# Altium schematic symbol library kmilo17pet-LT_PMIC_LT.SchLib: 2252 symbols (part 61 of 124)
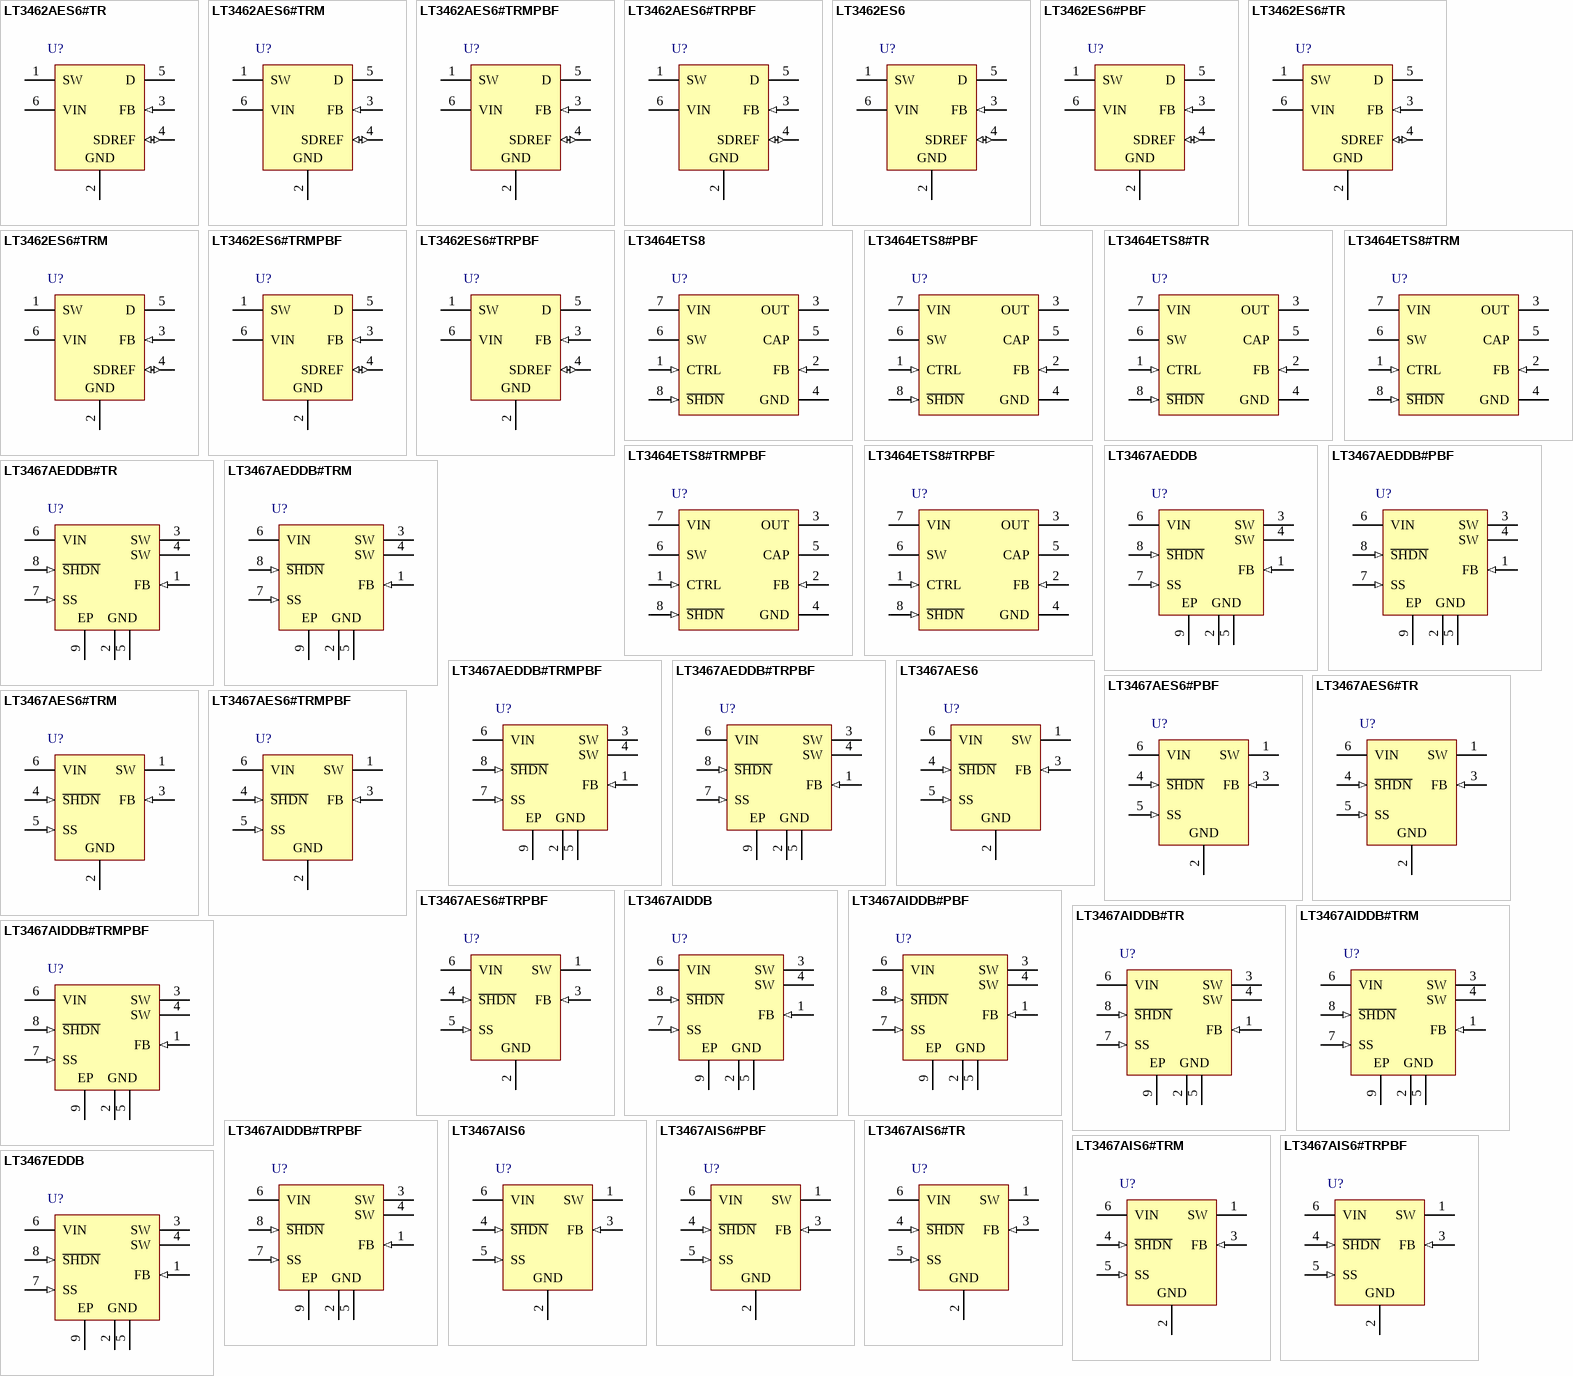
[diagram p131: symbols LT3462AES6#TR to LT3467EDDB]

## LT3467AEDDB
designator U?
1.1 A Step-Up DC/DC Converter with Integrated Soft-Start MAX, 8-pin SON (DDB-8), -40 to 85 degC; Manufacturer: Linear Technology; PartNumber: LT3467AEDDB; Number of Outputs: 1; PackageReference: DDB-8; PackageDescription: 8-Pin Plastic DFN, Body 3 x 2 mm, Pitch 0.5 mm; RoHS: FALSE
footprint LT-DDB-8_V (SON, 8-Leads, Body 3x2mm, Pitch 0.5mm, Thermal Pad 2.2x0.61mm)
pins: 1 FB (in) "Feedback Pin. Reference voltage is 1.255V. Connect resistive divider tap here. Minimize trace area at  FB. Set VOUT = 1.255V(1 + R1/R2).", 2 GND (power) "Ground. Tie directly to local  ground plane.", 3 SW (power) "Switch Pin. (Collector of internal NPN power switch) Connect inductor/diode here and  minimize the metal trace area connected to this pin to minimize EMI.", 4 SW (power) "Switch Pin. (Collector of internal NPN power switch) Connect inductor/diode here and  minimize the metal trace area connected to this pin to minimize EMI.", 5 GND (power) "Ground. Tie directly to local  ground plane.", 6 VIN (power) "Input Supply Pin. Must be locally bypassed.", 7 SS (in) "Soft-Start Pin. Place a soft-start capacitor here. Upon start-up, 4uA of current charges the capacitor to 1.255V. Use a larger capacitor for slower start-up. Leave floating if not in use.", 8 ~{SHDN} (in) "Shutdown Pin. Tie to 2.4V or more to enable device. Ground to shut down.", 9 EP (power) "Ground. Tie directly to local ground plane."

## LT3467AEDDB#PBF
designator U?
1.1 A Step-Up DC/DC Converter with Integrated Soft-Start MAX, 8-pin SON (DDB-8), -40 to 85 degC, Pb-Free; Manufacturer: Linear Technology; PartNumber: LT3467AEDDB#PBF; Number of Outputs: 1; PackageReference: DDB-8; PackageDescription: 8-Pin Plastic DFN, Body 3 x 2 mm, Pitch 0.5 mm; Supplier 1: Newark; Supplier Part Number 1: 78T3993; RoHS: TRUE
footprint LT-DDB-8_V (SON, 8-Leads, Body 3x2mm, Pitch 0.5mm, Thermal Pad 2.2x0.61mm)
pins: 1 FB (in) "Feedback Pin. Reference voltage is 1.255V. Connect resistive divider tap here. Minimize trace area at  FB. Set VOUT = 1.255V(1 + R1/R2).", 2 GND (power) "Ground. Tie directly to local  ground plane.", 3 SW (power) "Switch Pin. (Collector of internal NPN power switch) Connect inductor/diode here and  minimize the metal trace area connected to this pin to minimize EMI.", 4 SW (power) "Switch Pin. (Collector of internal NPN power switch) Connect inductor/diode here and  minimize the metal trace area connected to this pin to minimize EMI.", 5 GND (power) "Ground. Tie directly to local  ground plane.", 6 VIN (power) "Input Supply Pin. Must be locally bypassed.", 7 SS (in) "Soft-Start Pin. Place a soft-start capacitor here. Upon start-up, 4uA of current charges the capacitor to 1.255V. Use a larger capacitor for slower start-up. Leave floating if not in use.", 8 ~{SHDN} (in) "Shutdown Pin. Tie to 2.4V or more to enable device. Ground to shut down.", 9 EP (power) "Ground. Tie directly to local ground plane."

## LT3467AEDDB#TR
designator U?
1.1 A Step-Up DC/DC Converter with Integrated Soft-Start MAX, 8-pin SON (DDB-8), -40 to 85 degC, Tape and Reel; Manufacturer: Linear Technology; PartNumber: LT3467AEDDB#TR; Number of Outputs: 1; PackageReference: DDB-8; PackageDescription: 8-Pin Plastic DFN, Body 3 x 2 mm, Pitch 0.5 mm; RoHS: FALSE
footprint LT-DDB-8_V (SON, 8-Leads, Body 3x2mm, Pitch 0.5mm, Thermal Pad 2.2x0.61mm)
pins: 1 FB (in) "Feedback Pin. Reference voltage is 1.255V. Connect resistive divider tap here. Minimize trace area at  FB. Set VOUT = 1.255V(1 + R1/R2).", 2 GND (power) "Ground. Tie directly to local  ground plane.", 3 SW (power) "Switch Pin. (Collector of internal NPN power switch) Connect inductor/diode here and  minimize the metal trace area connected to this pin to minimize EMI.", 4 SW (power) "Switch Pin. (Collector of internal NPN power switch) Connect inductor/diode here and  minimize the metal trace area connected to this pin to minimize EMI.", 5 GND (power) "Ground. Tie directly to local  ground plane.", 6 VIN (power) "Input Supply Pin. Must be locally bypassed.", 7 SS (in) "Soft-Start Pin. Place a soft-start capacitor here. Upon start-up, 4uA of current charges the capacitor to 1.255V. Use a larger capacitor for slower start-up. Leave floating if not in use.", 8 ~{SHDN} (in) "Shutdown Pin. Tie to 2.4V or more to enable device. Ground to shut down.", 9 EP (power) "Ground. Tie directly to local ground plane."

## LT3467AEDDB#TRM
designator U?
1.1 A Step-Up DC/DC Converter with Integrated Soft-Start MAX, 8-pin SON (DDB-8), -40 to 85 degC, Mini Tape and Reel; Manufacturer: Linear Technology; PartNumber: LT3467AEDDB#TRM; Number of Outputs: 1; PackageReference: DDB-8; PackageDescription: 8-Pin Plastic DFN, Body 3 x 2 mm, Pitch 0.5 mm; RoHS: FALSE
footprint LT-DDB-8_V (SON, 8-Leads, Body 3x2mm, Pitch 0.5mm, Thermal Pad 2.2x0.61mm)
pins: 1 FB (in) "Feedback Pin. Reference voltage is 1.255V. Connect resistive divider tap here. Minimize trace area at  FB. Set VOUT = 1.255V(1 + R1/R2).", 2 GND (power) "Ground. Tie directly to local  ground plane.", 3 SW (power) "Switch Pin. (Collector of internal NPN power switch) Connect inductor/diode here and  minimize the metal trace area connected to this pin to minimize EMI.", 4 SW (power) "Switch Pin. (Collector of internal NPN power switch) Connect inductor/diode here and  minimize the metal trace area connected to this pin to minimize EMI.", 5 GND (power) "Ground. Tie directly to local  ground plane.", 6 VIN (power) "Input Supply Pin. Must be locally bypassed.", 7 SS (in) "Soft-Start Pin. Place a soft-start capacitor here. Upon start-up, 4uA of current charges the capacitor to 1.255V. Use a larger capacitor for slower start-up. Leave floating if not in use.", 8 ~{SHDN} (in) "Shutdown Pin. Tie to 2.4V or more to enable device. Ground to shut down.", 9 EP (power) "Ground. Tie directly to local ground plane."

## LT3467AEDDB#TRMPBF
designator U?
1.1 A Step-Up DC/DC Converter with Integrated Soft-Start MAX, 8-pin SON (DDB-8), -40 to 85 degC, Pb-Free, Mini Tape and Reel; Manufacturer: Linear Technology; PartNumber: LT3467AEDDB#TRMPBF; Number of Outputs: 1; PackageReference: DDB-8; PackageDescription: 8-Pin Plastic DFN, Body 3 x 2 mm, Pitch 0.5 mm; Supplier 1: Digi-Key; Supplier Part Number 1: LT3467AEDDB#TRMPBF-ND; RoHS: TRUE
footprint LT-DDB-8_V (SON, 8-Leads, Body 3x2mm, Pitch 0.5mm, Thermal Pad 2.2x0.61mm)
pins: 1 FB (in) "Feedback Pin. Reference voltage is 1.255V. Connect resistive divider tap here. Minimize trace area at  FB. Set VOUT = 1.255V(1 + R1/R2).", 2 GND (power) "Ground. Tie directly to local  ground plane.", 3 SW (power) "Switch Pin. (Collector of internal NPN power switch) Connect inductor/diode here and  minimize the metal trace area connected to this pin to minimize EMI.", 4 SW (power) "Switch Pin. (Collector of internal NPN power switch) Connect inductor/diode here and  minimize the metal trace area connected to this pin to minimize EMI.", 5 GND (power) "Ground. Tie directly to local  ground plane.", 6 VIN (power) "Input Supply Pin. Must be locally bypassed.", 7 SS (in) "Soft-Start Pin. Place a soft-start capacitor here. Upon start-up, 4uA of current charges the capacitor to 1.255V. Use a larger capacitor for slower start-up. Leave floating if not in use.", 8 ~{SHDN} (in) "Shutdown Pin. Tie to 2.4V or more to enable device. Ground to shut down.", 9 EP (power) "Ground. Tie directly to local ground plane."

## LT3467AEDDB#TRPBF
designator U?
1.1 A Step-Up DC/DC Converter with Integrated Soft-Start MAX, 8-pin SON (DDB-8), -40 to 85 degC, Pb-Free, Tape and Reel; Manufacturer: Linear Technology; PartNumber: LT3467AEDDB#TRPBF; Number of Outputs: 1; PackageReference: DDB-8; PackageDescription: 8-Pin Plastic DFN, Body 3 x 2 mm, Pitch 0.5 mm; Supplier 1: Digi-Key; Supplier Part Number 1: LT3467AEDDB#TRPBF-ND; RoHS: TRUE
footprint LT-DDB-8_V (SON, 8-Leads, Body 3x2mm, Pitch 0.5mm, Thermal Pad 2.2x0.61mm)
pins: 1 FB (in) "Feedback Pin. Reference voltage is 1.255V. Connect resistive divider tap here. Minimize trace area at  FB. Set VOUT = 1.255V(1 + R1/R2).", 2 GND (power) "Ground. Tie directly to local  ground plane.", 3 SW (power) "Switch Pin. (Collector of internal NPN power switch) Connect inductor/diode here and  minimize the metal trace area connected to this pin to minimize EMI.", 4 SW (power) "Switch Pin. (Collector of internal NPN power switch) Connect inductor/diode here and  minimize the metal trace area connected to this pin to minimize EMI.", 5 GND (power) "Ground. Tie directly to local  ground plane.", 6 VIN (power) "Input Supply Pin. Must be locally bypassed.", 7 SS (in) "Soft-Start Pin. Place a soft-start capacitor here. Upon start-up, 4uA of current charges the capacitor to 1.255V. Use a larger capacitor for slower start-up. Leave floating if not in use.", 8 ~{SHDN} (in) "Shutdown Pin. Tie to 2.4V or more to enable device. Ground to shut down.", 9 EP (power) "Ground. Tie directly to local ground plane."

## LT3467AES6
designator U?
1.1 A Step-Up DC/DC Converter with Integrated Soft-Start MAX, 6-pin SOT23 (S6-6), -40 to 85 degC; Manufacturer: Linear Technology; PartNumber: LT3467AES6; Number of Outputs: 1; PackageReference: S6-6; PackageDescription: 6-Pin Plastic TSOT-23, Body 2.9 x 1.63 mm, Pitch 0.95 mm; RoHS: FALSE
footprint LT-S6-6-TSOT-23_N (SOT23, 6-Leads, Body 2.9x1.75mm, Pitch 0.95mm, IPC Medium Density)
footprint LT-S6-6-TSOT-23_L (SOT23, 6-Leads, Body 2.9x1.75mm, Pitch 0.95mm, IPC High Density)
footprint LT-S6-6-TSOT-23_M (SOT23, 6-Leads, Body 2.9x1.75mm, Pitch 0.95mm, IPC Low Density)
pins: 1 SW (power) "Switch Pin. (Collector of internal NPN power switch) Connect inductor/diode here and minimize the metal trace area connected to this pin to minimize EMI.", 2 GND (power) "Ground. Tie directly to local ground plane.", 3 FB (in) "Feedback Pin. Reference voltage is 1.255V. Connect resistive divider tap here. Minimize trace area at FB. Set VOUT = 1.255V(1 + R1/R2).", 4 ~{SHDN} (in) "Shutdown Pin. Tie to 2.4V or more to enable device. Ground to shut down.", 5 SS (in) "Soft-Start Pin. Place a soft-start capacitor here. Upon start-up, 4uA of current charges the capacitor to 1.255V. Use a larger capacitor for slower start-up. Leave floating if not in use.", 6 VIN (power) "Input Supply Pin. Must be locally bypassed."

## LT3467AES6#PBF
designator U?
1.1 A Step-Up DC/DC Converter with Integrated Soft-Start MAX, 6-pin SOT23 (S6-6), -40 to 85 degC, Pb-Free; Manufacturer: Linear Technology; PartNumber: LT3467AES6#PBF; Number of Outputs: 1; PackageReference: S6-6; PackageDescription: 6-Pin Plastic TSOT-23, Body 2.9 x 1.63 mm, Pitch 0.95 mm; Supplier 1: Farnell; Supplier Part Number 1: 2308203; RoHS: TRUE
footprint LT-S6-6-TSOT-23_N (SOT23, 6-Leads, Body 2.9x1.75mm, Pitch 0.95mm, IPC Medium Density)
footprint LT-S6-6-TSOT-23_L (SOT23, 6-Leads, Body 2.9x1.75mm, Pitch 0.95mm, IPC High Density)
footprint LT-S6-6-TSOT-23_M (SOT23, 6-Leads, Body 2.9x1.75mm, Pitch 0.95mm, IPC Low Density)
pins: 1 SW (power) "Switch Pin. (Collector of internal NPN power switch) Connect inductor/diode here and minimize the metal trace area connected to this pin to minimize EMI.", 2 GND (power) "Ground. Tie directly to local ground plane.", 3 FB (in) "Feedback Pin. Reference voltage is 1.255V. Connect resistive divider tap here. Minimize trace area at FB. Set VOUT = 1.255V(1 + R1/R2).", 4 ~{SHDN} (in) "Shutdown Pin. Tie to 2.4V or more to enable device. Ground to shut down.", 5 SS (in) "Soft-Start Pin. Place a soft-start capacitor here. Upon start-up, 4uA of current charges the capacitor to 1.255V. Use a larger capacitor for slower start-up. Leave floating if not in use.", 6 VIN (power) "Input Supply Pin. Must be locally bypassed."

## LT3467AES6#TR
designator U?
1.1 A Step-Up DC/DC Converter with Integrated Soft-Start MAX, 6-pin SOT23 (S6-6), -40 to 85 degC, Tape and Reel; Manufacturer: Linear Technology; PartNumber: LT3467AES6#TR; Number of Outputs: 1; PackageReference: S6-6; PackageDescription: 6-Pin Plastic TSOT-23, Body 2.9 x 1.63 mm, Pitch 0.95 mm; Supplier 1: Digi-Key; Supplier Part Number 1: LT3467AES6#TR-ND; RoHS: FALSE
footprint LT-S6-6-TSOT-23_N (SOT23, 6-Leads, Body 2.9x1.75mm, Pitch 0.95mm, IPC Medium Density)
footprint LT-S6-6-TSOT-23_L (SOT23, 6-Leads, Body 2.9x1.75mm, Pitch 0.95mm, IPC High Density)
footprint LT-S6-6-TSOT-23_M (SOT23, 6-Leads, Body 2.9x1.75mm, Pitch 0.95mm, IPC Low Density)
pins: 1 SW (power) "Switch Pin. (Collector of internal NPN power switch) Connect inductor/diode here and minimize the metal trace area connected to this pin to minimize EMI.", 2 GND (power) "Ground. Tie directly to local ground plane.", 3 FB (in) "Feedback Pin. Reference voltage is 1.255V. Connect resistive divider tap here. Minimize trace area at FB. Set VOUT = 1.255V(1 + R1/R2).", 4 ~{SHDN} (in) "Shutdown Pin. Tie to 2.4V or more to enable device. Ground to shut down.", 5 SS (in) "Soft-Start Pin. Place a soft-start capacitor here. Upon start-up, 4uA of current charges the capacitor to 1.255V. Use a larger capacitor for slower start-up. Leave floating if not in use.", 6 VIN (power) "Input Supply Pin. Must be locally bypassed."

## LT3467AES6#TRM
designator U?
1.1 A Step-Up DC/DC Converter with Integrated Soft-Start MAX, 6-pin SOT23 (S6-6), -40 to 85 degC, Mini Tape and Reel; Manufacturer: Linear Technology; PartNumber: LT3467AES6#TRM; Number of Outputs: 1; PackageReference: S6-6; PackageDescription: 6-Pin Plastic TSOT-23, Body 2.9 x 1.63 mm, Pitch 0.95 mm; Supplier 1: Digi-Key; Supplier Part Number 1: LT3467AES6#TRM-ND; RoHS: FALSE
footprint LT-S6-6-TSOT-23_N (SOT23, 6-Leads, Body 2.9x1.75mm, Pitch 0.95mm, IPC Medium Density)
footprint LT-S6-6-TSOT-23_L (SOT23, 6-Leads, Body 2.9x1.75mm, Pitch 0.95mm, IPC High Density)
footprint LT-S6-6-TSOT-23_M (SOT23, 6-Leads, Body 2.9x1.75mm, Pitch 0.95mm, IPC Low Density)
pins: 1 SW (power) "Switch Pin. (Collector of internal NPN power switch) Connect inductor/diode here and minimize the metal trace area connected to this pin to minimize EMI.", 2 GND (power) "Ground. Tie directly to local ground plane.", 3 FB (in) "Feedback Pin. Reference voltage is 1.255V. Connect resistive divider tap here. Minimize trace area at FB. Set VOUT = 1.255V(1 + R1/R2).", 4 ~{SHDN} (in) "Shutdown Pin. Tie to 2.4V or more to enable device. Ground to shut down.", 5 SS (in) "Soft-Start Pin. Place a soft-start capacitor here. Upon start-up, 4uA of current charges the capacitor to 1.255V. Use a larger capacitor for slower start-up. Leave floating if not in use.", 6 VIN (power) "Input Supply Pin. Must be locally bypassed."

## LT3467AES6#TRMPBF
designator U?
1.1 A Step-Up DC/DC Converter with Integrated Soft-Start MAX, 6-pin SOT23 (S6-6), -40 to 85 degC, Pb-Free, Mini Tape and Reel; Manufacturer: Linear Technology; PartNumber: LT3467AES6#TRMPBF; Number of Outputs: 1; PackageReference: S6-6; PackageDescription: 6-Pin Plastic TSOT-23, Body 2.9 x 1.63 mm, Pitch 0.95 mm; Supplier 1: Digi-Key; Supplier Part Number 1: LT3467AES6#TRMPBFTR-ND; RoHS: TRUE
footprint LT-S6-6-TSOT-23_N (SOT23, 6-Leads, Body 2.9x1.75mm, Pitch 0.95mm, IPC Medium Density)
footprint LT-S6-6-TSOT-23_L (SOT23, 6-Leads, Body 2.9x1.75mm, Pitch 0.95mm, IPC High Density)
footprint LT-S6-6-TSOT-23_M (SOT23, 6-Leads, Body 2.9x1.75mm, Pitch 0.95mm, IPC Low Density)
pins: 1 SW (power) "Switch Pin. (Collector of internal NPN power switch) Connect inductor/diode here and minimize the metal trace area connected to this pin to minimize EMI.", 2 GND (power) "Ground. Tie directly to local ground plane.", 3 FB (in) "Feedback Pin. Reference voltage is 1.255V. Connect resistive divider tap here. Minimize trace area at FB. Set VOUT = 1.255V(1 + R1/R2).", 4 ~{SHDN} (in) "Shutdown Pin. Tie to 2.4V or more to enable device. Ground to shut down.", 5 SS (in) "Soft-Start Pin. Place a soft-start capacitor here. Upon start-up, 4uA of current charges the capacitor to 1.255V. Use a larger capacitor for slower start-up. Leave floating if not in use.", 6 VIN (power) "Input Supply Pin. Must be locally bypassed."

## LT3467AES6#TRPBF
designator U?
1.1 A Step-Up DC/DC Converter with Integrated Soft-Start MAX, 6-pin SOT23 (S6-6), -40 to 85 degC, Pb-Free, Tape and Reel; Manufacturer: Linear Technology; PartNumber: LT3467AES6#TRPBF; Number of Outputs: 1; PackageReference: S6-6; PackageDescription: 6-Pin Plastic TSOT-23, Body 2.9 x 1.63 mm, Pitch 0.95 mm; Supplier 1: Digi-Key; Supplier Part Number 1: LT3467AES6#TRPBF-ND; RoHS: TRUE
footprint LT-S6-6-TSOT-23_N (SOT23, 6-Leads, Body 2.9x1.75mm, Pitch 0.95mm, IPC Medium Density)
footprint LT-S6-6-TSOT-23_L (SOT23, 6-Leads, Body 2.9x1.75mm, Pitch 0.95mm, IPC High Density)
footprint LT-S6-6-TSOT-23_M (SOT23, 6-Leads, Body 2.9x1.75mm, Pitch 0.95mm, IPC Low Density)
pins: 1 SW (power) "Switch Pin. (Collector of internal NPN power switch) Connect inductor/diode here and minimize the metal trace area connected to this pin to minimize EMI.", 2 GND (power) "Ground. Tie directly to local ground plane.", 3 FB (in) "Feedback Pin. Reference voltage is 1.255V. Connect resistive divider tap here. Minimize trace area at FB. Set VOUT = 1.255V(1 + R1/R2).", 4 ~{SHDN} (in) "Shutdown Pin. Tie to 2.4V or more to enable device. Ground to shut down.", 5 SS (in) "Soft-Start Pin. Place a soft-start capacitor here. Upon start-up, 4uA of current charges the capacitor to 1.255V. Use a larger capacitor for slower start-up. Leave floating if not in use.", 6 VIN (power) "Input Supply Pin. Must be locally bypassed."

## LT3467AIDDB
designator U?
1.1 A Step-Up DC/DC Converter with Integrated Soft-Start MAX, 8-pin SON (DDB-8), -40 to 125 degC; Manufacturer: Linear Technology; PartNumber: LT3467AIDDB; Number of Outputs: 1; PackageReference: DDB-8; PackageDescription: 8-Pin Plastic DFN, Body 3 x 2 mm, Pitch 0.5 mm; RoHS: FALSE
footprint LT-DDB-8_V (SON, 8-Leads, Body 3x2mm, Pitch 0.5mm, Thermal Pad 2.2x0.61mm)
pins: 1 FB (in) "Feedback Pin. Reference voltage is 1.255V. Connect resistive divider tap here. Minimize trace area at  FB. Set VOUT = 1.255V(1 + R1/R2).", 2 GND (power) "Ground. Tie directly to local  ground plane.", 3 SW (power) "Switch Pin. (Collector of internal NPN power switch) Connect inductor/diode here and  minimize the metal trace area connected to this pin to minimize EMI.", 4 SW (power) "Switch Pin. (Collector of internal NPN power switch) Connect inductor/diode here and  minimize the metal trace area connected to this pin to minimize EMI.", 5 GND (power) "Ground. Tie directly to local  ground plane.", 6 VIN (power) "Input Supply Pin. Must be locally bypassed.", 7 SS (in) "Soft-Start Pin. Place a soft-start capacitor here. Upon start-up, 4uA of current charges the capacitor to 1.255V. Use a larger capacitor for slower start-up. Leave floating if not in use.", 8 ~{SHDN} (in) "Shutdown Pin. Tie to 2.4V or more to enable device. Ground to shut down.", 9 EP (power) "Ground. Tie directly to local ground plane."

## LT3467AIDDB#PBF
designator U?
1.1 A Step-Up DC/DC Converter with Integrated Soft-Start MAX, 8-pin SON (DDB-8), -40 to 125 degC, Pb-Free; Manufacturer: Linear Technology; PartNumber: LT3467AIDDB#PBF; Number of Outputs: 1; PackageReference: DDB-8; PackageDescription: 8-Pin Plastic DFN, Body 3 x 2 mm, Pitch 0.5 mm; RoHS: TRUE
footprint LT-DDB-8_V (SON, 8-Leads, Body 3x2mm, Pitch 0.5mm, Thermal Pad 2.2x0.61mm)
pins: 1 FB (in) "Feedback Pin. Reference voltage is 1.255V. Connect resistive divider tap here. Minimize trace area at  FB. Set VOUT = 1.255V(1 + R1/R2).", 2 GND (power) "Ground. Tie directly to local  ground plane.", 3 SW (power) "Switch Pin. (Collector of internal NPN power switch) Connect inductor/diode here and  minimize the metal trace area connected to this pin to minimize EMI.", 4 SW (power) "Switch Pin. (Collector of internal NPN power switch) Connect inductor/diode here and  minimize the metal trace area connected to this pin to minimize EMI.", 5 GND (power) "Ground. Tie directly to local  ground plane.", 6 VIN (power) "Input Supply Pin. Must be locally bypassed.", 7 SS (in) "Soft-Start Pin. Place a soft-start capacitor here. Upon start-up, 4uA of current charges the capacitor to 1.255V. Use a larger capacitor for slower start-up. Leave floating if not in use.", 8 ~{SHDN} (in) "Shutdown Pin. Tie to 2.4V or more to enable device. Ground to shut down.", 9 EP (power) "Ground. Tie directly to local ground plane."

## LT3467AIDDB#TR
designator U?
1.1 A Step-Up DC/DC Converter with Integrated Soft-Start MAX, 8-pin SON (DDB-8), -40 to 125 degC, Tape and Reel; Manufacturer: Linear Technology; PartNumber: LT3467AIDDB#TR; Number of Outputs: 1; PackageReference: DDB-8; PackageDescription: 8-Pin Plastic DFN, Body 3 x 2 mm, Pitch 0.5 mm; RoHS: FALSE
footprint LT-DDB-8_V (SON, 8-Leads, Body 3x2mm, Pitch 0.5mm, Thermal Pad 2.2x0.61mm)
pins: 1 FB (in) "Feedback Pin. Reference voltage is 1.255V. Connect resistive divider tap here. Minimize trace area at  FB. Set VOUT = 1.255V(1 + R1/R2).", 2 GND (power) "Ground. Tie directly to local  ground plane.", 3 SW (power) "Switch Pin. (Collector of internal NPN power switch) Connect inductor/diode here and  minimize the metal trace area connected to this pin to minimize EMI.", 4 SW (power) "Switch Pin. (Collector of internal NPN power switch) Connect inductor/diode here and  minimize the metal trace area connected to this pin to minimize EMI.", 5 GND (power) "Ground. Tie directly to local  ground plane.", 6 VIN (power) "Input Supply Pin. Must be locally bypassed.", 7 SS (in) "Soft-Start Pin. Place a soft-start capacitor here. Upon start-up, 4uA of current charges the capacitor to 1.255V. Use a larger capacitor for slower start-up. Leave floating if not in use.", 8 ~{SHDN} (in) "Shutdown Pin. Tie to 2.4V or more to enable device. Ground to shut down.", 9 EP (power) "Ground. Tie directly to local ground plane."

## LT3467AIDDB#TRM
designator U?
1.1 A Step-Up DC/DC Converter with Integrated Soft-Start MAX, 8-pin SON (DDB-8), -40 to 125 degC, Mini Tape and Reel; Manufacturer: Linear Technology; PartNumber: LT3467AIDDB#TRM; Number of Outputs: 1; PackageReference: DDB-8; PackageDescription: 8-Pin Plastic DFN, Body 3 x 2 mm, Pitch 0.5 mm; RoHS: FALSE
footprint LT-DDB-8_V (SON, 8-Leads, Body 3x2mm, Pitch 0.5mm, Thermal Pad 2.2x0.61mm)
pins: 1 FB (in) "Feedback Pin. Reference voltage is 1.255V. Connect resistive divider tap here. Minimize trace area at  FB. Set VOUT = 1.255V(1 + R1/R2).", 2 GND (power) "Ground. Tie directly to local  ground plane.", 3 SW (power) "Switch Pin. (Collector of internal NPN power switch) Connect inductor/diode here and  minimize the metal trace area connected to this pin to minimize EMI.", 4 SW (power) "Switch Pin. (Collector of internal NPN power switch) Connect inductor/diode here and  minimize the metal trace area connected to this pin to minimize EMI.", 5 GND (power) "Ground. Tie directly to local  ground plane.", 6 VIN (power) "Input Supply Pin. Must be locally bypassed.", 7 SS (in) "Soft-Start Pin. Place a soft-start capacitor here. Upon start-up, 4uA of current charges the capacitor to 1.255V. Use a larger capacitor for slower start-up. Leave floating if not in use.", 8 ~{SHDN} (in) "Shutdown Pin. Tie to 2.4V or more to enable device. Ground to shut down.", 9 EP (power) "Ground. Tie directly to local ground plane."

## LT3467AIDDB#TRMPBF
designator U?
1.1 A Step-Up DC/DC Converter with Integrated Soft-Start MAX, 8-pin SON (DDB-8), -40 to 125 degC, Pb-Free, Mini Tape and Reel; Manufacturer: Linear Technology; PartNumber: LT3467AIDDB#TRMPBF; Number of Outputs: 1; PackageReference: DDB-8; PackageDescription: 8-Pin Plastic DFN, Body 3 x 2 mm, Pitch 0.5 mm; Supplier 1: Digi-Key; Supplier Part Number 1: LT3467AIDDB#TRMPBF-ND; RoHS: TRUE
footprint LT-DDB-8_V (SON, 8-Leads, Body 3x2mm, Pitch 0.5mm, Thermal Pad 2.2x0.61mm)
pins: 1 FB (in) "Feedback Pin. Reference voltage is 1.255V. Connect resistive divider tap here. Minimize trace area at  FB. Set VOUT = 1.255V(1 + R1/R2).", 2 GND (power) "Ground. Tie directly to local  ground plane.", 3 SW (power) "Switch Pin. (Collector of internal NPN power switch) Connect inductor/diode here and  minimize the metal trace area connected to this pin to minimize EMI.", 4 SW (power) "Switch Pin. (Collector of internal NPN power switch) Connect inductor/diode here and  minimize the metal trace area connected to this pin to minimize EMI.", 5 GND (power) "Ground. Tie directly to local  ground plane.", 6 VIN (power) "Input Supply Pin. Must be locally bypassed.", 7 SS (in) "Soft-Start Pin. Place a soft-start capacitor here. Upon start-up, 4uA of current charges the capacitor to 1.255V. Use a larger capacitor for slower start-up. Leave floating if not in use.", 8 ~{SHDN} (in) "Shutdown Pin. Tie to 2.4V or more to enable device. Ground to shut down.", 9 EP (power) "Ground. Tie directly to local ground plane."

## LT3467AIDDB#TRPBF
designator U?
1.1 A Step-Up DC/DC Converter with Integrated Soft-Start MAX, 8-pin SON (DDB-8), -40 to 125 degC, Pb-Free, Tape and Reel; Manufacturer: Linear Technology; PartNumber: LT3467AIDDB#TRPBF; Number of Outputs: 1; PackageReference: DDB-8; PackageDescription: 8-Pin Plastic DFN, Body 3 x 2 mm, Pitch 0.5 mm; Supplier 1: Digi-Key; Supplier Part Number 1: LT3467AIDDB#TRPBF-ND; RoHS: TRUE
footprint LT-DDB-8_V (SON, 8-Leads, Body 3x2mm, Pitch 0.5mm, Thermal Pad 2.2x0.61mm)
pins: 1 FB (in) "Feedback Pin. Reference voltage is 1.255V. Connect resistive divider tap here. Minimize trace area at  FB. Set VOUT = 1.255V(1 + R1/R2).", 2 GND (power) "Ground. Tie directly to local  ground plane.", 3 SW (power) "Switch Pin. (Collector of internal NPN power switch) Connect inductor/diode here and  minimize the metal trace area connected to this pin to minimize EMI.", 4 SW (power) "Switch Pin. (Collector of internal NPN power switch) Connect inductor/diode here and  minimize the metal trace area connected to this pin to minimize EMI.", 5 GND (power) "Ground. Tie directly to local  ground plane.", 6 VIN (power) "Input Supply Pin. Must be locally bypassed.", 7 SS (in) "Soft-Start Pin. Place a soft-start capacitor here. Upon start-up, 4uA of current charges the capacitor to 1.255V. Use a larger capacitor for slower start-up. Leave floating if not in use.", 8 ~{SHDN} (in) "Shutdown Pin. Tie to 2.4V or more to enable device. Ground to shut down.", 9 EP (power) "Ground. Tie directly to local ground plane."

## LT3467AIS6
designator U?
1.1 A Step-Up DC/DC Converter with Integrated Soft-Start MAX, 6-pin SOT23 (S6-6), -40 to 125 degC; Manufacturer: Linear Technology; PartNumber: LT3467AIS6; Number of Outputs: 1; PackageReference: S6-6; PackageDescription: 6-Pin Plastic TSOT-23, Body 2.9 x 1.63 mm, Pitch 0.95 mm; RoHS: FALSE
footprint LT-S6-6-TSOT-23_N (SOT23, 6-Leads, Body 2.9x1.75mm, Pitch 0.95mm, IPC Medium Density)
footprint LT-S6-6-TSOT-23_L (SOT23, 6-Leads, Body 2.9x1.75mm, Pitch 0.95mm, IPC High Density)
footprint LT-S6-6-TSOT-23_M (SOT23, 6-Leads, Body 2.9x1.75mm, Pitch 0.95mm, IPC Low Density)
pins: 1 SW (power) "Switch Pin. (Collector of internal NPN power switch) Connect inductor/diode here and minimize the metal trace area connected to this pin to minimize EMI.", 2 GND (power) "Ground. Tie directly to local ground plane.", 3 FB (in) "Feedback Pin. Reference voltage is 1.255V. Connect resistive divider tap here. Minimize trace area at FB. Set VOUT = 1.255V(1 + R1/R2).", 4 ~{SHDN} (in) "Shutdown Pin. Tie to 2.4V or more to enable device. Ground to shut down.", 5 SS (in) "Soft-Start Pin. Place a soft-start capacitor here. Upon start-up, 4uA of current charges the capacitor to 1.255V. Use a larger capacitor for slower start-up. Leave floating if not in use.", 6 VIN (power) "Input Supply Pin. Must be locally bypassed."

## LT3467AIS6#PBF
designator U?
1.1 A Step-Up DC/DC Converter with Integrated Soft-Start MAX, 6-pin SOT23 (S6-6), -40 to 125 degC, Pb-Free; Manufacturer: Linear Technology; PartNumber: LT3467AIS6#PBF; Number of Outputs: 1; PackageReference: S6-6; PackageDescription: 6-Pin Plastic TSOT-23, Body 2.9 x 1.63 mm, Pitch 0.95 mm; Supplier 1: Newark; Supplier Part Number 1: 78T3996; RoHS: TRUE
footprint LT-S6-6-TSOT-23_N (SOT23, 6-Leads, Body 2.9x1.75mm, Pitch 0.95mm, IPC Medium Density)
footprint LT-S6-6-TSOT-23_L (SOT23, 6-Leads, Body 2.9x1.75mm, Pitch 0.95mm, IPC High Density)
footprint LT-S6-6-TSOT-23_M (SOT23, 6-Leads, Body 2.9x1.75mm, Pitch 0.95mm, IPC Low Density)
pins: 1 SW (power) "Switch Pin. (Collector of internal NPN power switch) Connect inductor/diode here and minimize the metal trace area connected to this pin to minimize EMI.", 2 GND (power) "Ground. Tie directly to local ground plane.", 3 FB (in) "Feedback Pin. Reference voltage is 1.255V. Connect resistive divider tap here. Minimize trace area at FB. Set VOUT = 1.255V(1 + R1/R2).", 4 ~{SHDN} (in) "Shutdown Pin. Tie to 2.4V or more to enable device. Ground to shut down.", 5 SS (in) "Soft-Start Pin. Place a soft-start capacitor here. Upon start-up, 4uA of current charges the capacitor to 1.255V. Use a larger capacitor for slower start-up. Leave floating if not in use.", 6 VIN (power) "Input Supply Pin. Must be locally bypassed."

## LT3467AIS6#TR
designator U?
1.1 A Step-Up DC/DC Converter with Integrated Soft-Start MAX, 6-pin SOT23 (S6-6), -40 to 125 degC, Tape and Reel; Manufacturer: Linear Technology; PartNumber: LT3467AIS6#TR; Number of Outputs: 1; PackageReference: S6-6; PackageDescription: 6-Pin Plastic TSOT-23, Body 2.9 x 1.63 mm, Pitch 0.95 mm; RoHS: FALSE
footprint LT-S6-6-TSOT-23_N (SOT23, 6-Leads, Body 2.9x1.75mm, Pitch 0.95mm, IPC Medium Density)
footprint LT-S6-6-TSOT-23_L (SOT23, 6-Leads, Body 2.9x1.75mm, Pitch 0.95mm, IPC High Density)
footprint LT-S6-6-TSOT-23_M (SOT23, 6-Leads, Body 2.9x1.75mm, Pitch 0.95mm, IPC Low Density)
pins: 1 SW (power) "Switch Pin. (Collector of internal NPN power switch) Connect inductor/diode here and minimize the metal trace area connected to this pin to minimize EMI.", 2 GND (power) "Ground. Tie directly to local ground plane.", 3 FB (in) "Feedback Pin. Reference voltage is 1.255V. Connect resistive divider tap here. Minimize trace area at FB. Set VOUT = 1.255V(1 + R1/R2).", 4 ~{SHDN} (in) "Shutdown Pin. Tie to 2.4V or more to enable device. Ground to shut down.", 5 SS (in) "Soft-Start Pin. Place a soft-start capacitor here. Upon start-up, 4uA of current charges the capacitor to 1.255V. Use a larger capacitor for slower start-up. Leave floating if not in use.", 6 VIN (power) "Input Supply Pin. Must be locally bypassed."

## LT3467AIS6#TRM
designator U?
1.1 A Step-Up DC/DC Converter with Integrated Soft-Start MAX, 6-pin SOT23 (S6-6), -40 to 125 degC, Mini Tape and Reel; Manufacturer: Linear Technology; PartNumber: LT3467AIS6#TRM; Number of Outputs: 1; PackageReference: S6-6; PackageDescription: 6-Pin Plastic TSOT-23, Body 2.9 x 1.63 mm, Pitch 0.95 mm; RoHS: FALSE
footprint LT-S6-6-TSOT-23_N (SOT23, 6-Leads, Body 2.9x1.75mm, Pitch 0.95mm, IPC Medium Density)
footprint LT-S6-6-TSOT-23_L (SOT23, 6-Leads, Body 2.9x1.75mm, Pitch 0.95mm, IPC High Density)
footprint LT-S6-6-TSOT-23_M (SOT23, 6-Leads, Body 2.9x1.75mm, Pitch 0.95mm, IPC Low Density)
pins: 1 SW (power) "Switch Pin. (Collector of internal NPN power switch) Connect inductor/diode here and minimize the metal trace area connected to this pin to minimize EMI.", 2 GND (power) "Ground. Tie directly to local ground plane.", 3 FB (in) "Feedback Pin. Reference voltage is 1.255V. Connect resistive divider tap here. Minimize trace area at FB. Set VOUT = 1.255V(1 + R1/R2).", 4 ~{SHDN} (in) "Shutdown Pin. Tie to 2.4V or more to enable device. Ground to shut down.", 5 SS (in) "Soft-Start Pin. Place a soft-start capacitor here. Upon start-up, 4uA of current charges the capacitor to 1.255V. Use a larger capacitor for slower start-up. Leave floating if not in use.", 6 VIN (power) "Input Supply Pin. Must be locally bypassed."

## LT3467AIS6#TRPBF
designator U?
1.1 A Step-Up DC/DC Converter with Integrated Soft-Start MAX, 6-pin SOT23 (S6-6), -40 to 125 degC, Pb-Free, Tape and Reel; Manufacturer: Linear Technology; PartNumber: LT3467AIS6#TRPBF; Number of Outputs: 1; PackageReference: S6-6; PackageDescription: 6-Pin Plastic TSOT-23, Body 2.9 x 1.63 mm, Pitch 0.95 mm; Supplier 1: Digi-Key; Supplier Part Number 1: LT3467AIS6#TRPBF-ND; RoHS: TRUE
footprint LT-S6-6-TSOT-23_N (SOT23, 6-Leads, Body 2.9x1.75mm, Pitch 0.95mm, IPC Medium Density)
footprint LT-S6-6-TSOT-23_L (SOT23, 6-Leads, Body 2.9x1.75mm, Pitch 0.95mm, IPC High Density)
footprint LT-S6-6-TSOT-23_M (SOT23, 6-Leads, Body 2.9x1.75mm, Pitch 0.95mm, IPC Low Density)
pins: 1 SW (power) "Switch Pin. (Collector of internal NPN power switch) Connect inductor/diode here and minimize the metal trace area connected to this pin to minimize EMI.", 2 GND (power) "Ground. Tie directly to local ground plane.", 3 FB (in) "Feedback Pin. Reference voltage is 1.255V. Connect resistive divider tap here. Minimize trace area at FB. Set VOUT = 1.255V(1 + R1/R2).", 4 ~{SHDN} (in) "Shutdown Pin. Tie to 2.4V or more to enable device. Ground to shut down.", 5 SS (in) "Soft-Start Pin. Place a soft-start capacitor here. Upon start-up, 4uA of current charges the capacitor to 1.255V. Use a larger capacitor for slower start-up. Leave floating if not in use.", 6 VIN (power) "Input Supply Pin. Must be locally bypassed."

## LT3467EDDB
designator U?
1.1 A Step-Up DC/DC Converter with Integrated Soft-Start MAX, 8-pin SON (DDB-8), -40 to 85 degC; Manufacturer: Linear Technology; PartNumber: LT3467EDDB; Number of Outputs: 1; PackageReference: DDB-8; PackageDescription: 8-Pin Plastic DFN, Body 3 x 2 mm, Pitch 0.5 mm; RoHS: FALSE
footprint LT-DDB-8_V (SON, 8-Leads, Body 3x2mm, Pitch 0.5mm, Thermal Pad 2.2x0.61mm)
pins: 1 FB (in) "Feedback Pin. Reference voltage is 1.255V. Connect resistive divider tap here. Minimize trace area at  FB. Set VOUT = 1.255V(1 + R1/R2).", 2 GND (power) "Ground. Tie directly to local  ground plane.", 3 SW (power) "Switch Pin. (Collector of internal NPN power switch) Connect inductor/diode here and  minimize the metal trace area connected to this pin to minimize EMI.", 4 SW (power) "Switch Pin. (Collector of internal NPN power switch) Connect inductor/diode here and  minimize the metal trace area connected to this pin to minimize EMI.", 5 GND (power) "Ground. Tie directly to local  ground plane.", 6 VIN (power) "Input Supply Pin. Must be locally bypassed.", 7 SS (in) "Soft-Start Pin. Place a soft-start capacitor here. Upon start-up, 4uA of current charges the capacitor to 1.255V. Use a larger capacitor for slower start-up. Leave floating if not in use.", 8 ~{SHDN} (in) "Shutdown Pin. Tie to 2.4V or more to enable device. Ground to shut down.", 9 EP (power) "Ground. Tie directly to local ground plane."

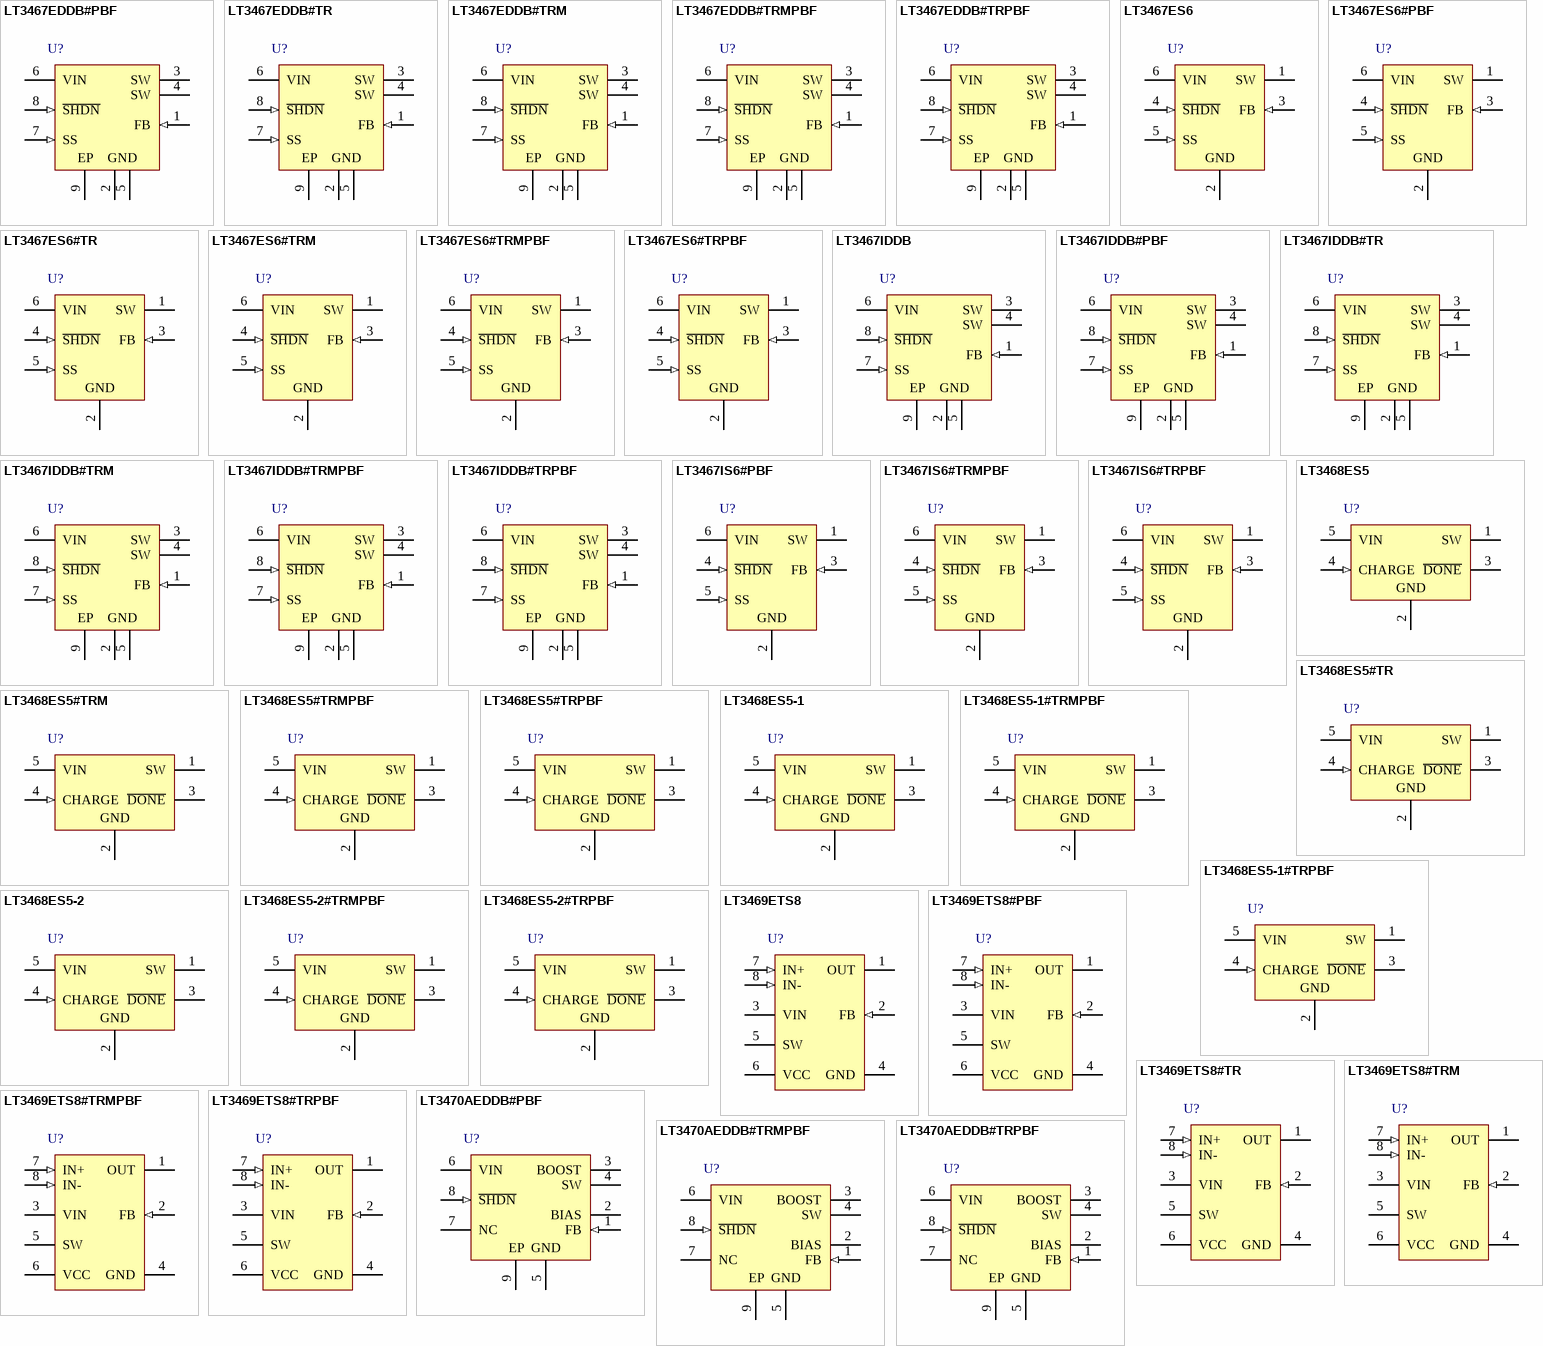
[diagram p37: symbols LT3467EDDB#PBF to LT3470AEDDB#TRPBF]

## LT3467EDDB#PBF
designator U?
1.1 A Step-Up DC/DC Converter with Integrated Soft-Start MAX, 8-pin SON (DDB-8), -40 to 85 degC, Pb-Free; Manufacturer: Linear Technology; PartNumber: LT3467EDDB#PBF; Number of Outputs: 1; PackageReference: DDB-8; PackageDescription: 8-Pin Plastic DFN, Body 3 x 2 mm, Pitch 0.5 mm; Supplier 1: Newark; Supplier Part Number 1: 78T3997; RoHS: TRUE
footprint LT-DDB-8_V (SON, 8-Leads, Body 3x2mm, Pitch 0.5mm, Thermal Pad 2.2x0.61mm)
pins: 1 FB (in) "Feedback Pin. Reference voltage is 1.255V. Connect resistive divider tap here. Minimize trace area at  FB. Set VOUT = 1.255V(1 + R1/R2).", 2 GND (power) "Ground. Tie directly to local  ground plane.", 3 SW (power) "Switch Pin. (Collector of internal NPN power switch) Connect inductor/diode here and  minimize the metal trace area connected to this pin to minimize EMI.", 4 SW (power) "Switch Pin. (Collector of internal NPN power switch) Connect inductor/diode here and  minimize the metal trace area connected to this pin to minimize EMI.", 5 GND (power) "Ground. Tie directly to local  ground plane.", 6 VIN (power) "Input Supply Pin. Must be locally bypassed.", 7 SS (in) "Soft-Start Pin. Place a soft-start capacitor here. Upon start-up, 4uA of current charges the capacitor to 1.255V. Use a larger capacitor for slower start-up. Leave floating if not in use.", 8 ~{SHDN} (in) "Shutdown Pin. Tie to 2.4V or more to enable device. Ground to shut down.", 9 EP (power) "Ground. Tie directly to local ground plane."

## LT3467EDDB#TR
designator U?
1.1 A Step-Up DC/DC Converter with Integrated Soft-Start MAX, 8-pin SON (DDB-8), -40 to 85 degC, Tape and Reel; Manufacturer: Linear Technology; PartNumber: LT3467EDDB#TR; Number of Outputs: 1; PackageReference: DDB-8; PackageDescription: 8-Pin Plastic DFN, Body 3 x 2 mm, Pitch 0.5 mm; RoHS: FALSE
footprint LT-DDB-8_V (SON, 8-Leads, Body 3x2mm, Pitch 0.5mm, Thermal Pad 2.2x0.61mm)
pins: 1 FB (in) "Feedback Pin. Reference voltage is 1.255V. Connect resistive divider tap here. Minimize trace area at  FB. Set VOUT = 1.255V(1 + R1/R2).", 2 GND (power) "Ground. Tie directly to local  ground plane.", 3 SW (power) "Switch Pin. (Collector of internal NPN power switch) Connect inductor/diode here and  minimize the metal trace area connected to this pin to minimize EMI.", 4 SW (power) "Switch Pin. (Collector of internal NPN power switch) Connect inductor/diode here and  minimize the metal trace area connected to this pin to minimize EMI.", 5 GND (power) "Ground. Tie directly to local  ground plane.", 6 VIN (power) "Input Supply Pin. Must be locally bypassed.", 7 SS (in) "Soft-Start Pin. Place a soft-start capacitor here. Upon start-up, 4uA of current charges the capacitor to 1.255V. Use a larger capacitor for slower start-up. Leave floating if not in use.", 8 ~{SHDN} (in) "Shutdown Pin. Tie to 2.4V or more to enable device. Ground to shut down.", 9 EP (power) "Ground. Tie directly to local ground plane."

## LT3467EDDB#TRM
designator U?
1.1 A Step-Up DC/DC Converter with Integrated Soft-Start MAX, 8-pin SON (DDB-8), -40 to 85 degC, Mini Tape and Reel; Manufacturer: Linear Technology; PartNumber: LT3467EDDB#TRM; Number of Outputs: 1; PackageReference: DDB-8; PackageDescription: 8-Pin Plastic DFN, Body 3 x 2 mm, Pitch 0.5 mm; RoHS: FALSE
footprint LT-DDB-8_V (SON, 8-Leads, Body 3x2mm, Pitch 0.5mm, Thermal Pad 2.2x0.61mm)
pins: 1 FB (in) "Feedback Pin. Reference voltage is 1.255V. Connect resistive divider tap here. Minimize trace area at  FB. Set VOUT = 1.255V(1 + R1/R2).", 2 GND (power) "Ground. Tie directly to local  ground plane.", 3 SW (power) "Switch Pin. (Collector of internal NPN power switch) Connect inductor/diode here and  minimize the metal trace area connected to this pin to minimize EMI.", 4 SW (power) "Switch Pin. (Collector of internal NPN power switch) Connect inductor/diode here and  minimize the metal trace area connected to this pin to minimize EMI.", 5 GND (power) "Ground. Tie directly to local  ground plane.", 6 VIN (power) "Input Supply Pin. Must be locally bypassed.", 7 SS (in) "Soft-Start Pin. Place a soft-start capacitor here. Upon start-up, 4uA of current charges the capacitor to 1.255V. Use a larger capacitor for slower start-up. Leave floating if not in use.", 8 ~{SHDN} (in) "Shutdown Pin. Tie to 2.4V or more to enable device. Ground to shut down.", 9 EP (power) "Ground. Tie directly to local ground plane."

## LT3467EDDB#TRMPBF
designator U?
1.1 A Step-Up DC/DC Converter with Integrated Soft-Start MAX, 8-pin SON (DDB-8), -40 to 85 degC, Pb-Free, Mini Tape and Reel; Manufacturer: Linear Technology; PartNumber: LT3467EDDB#TRMPBF; Number of Outputs: 1; PackageReference: DDB-8; PackageDescription: 8-Pin Plastic DFN, Body 3 x 2 mm, Pitch 0.5 mm; Supplier 1: Digi-Key; Supplier Part Number 1: LT3467EDDB#TRMPBF-ND; RoHS: TRUE
footprint LT-DDB-8_V (SON, 8-Leads, Body 3x2mm, Pitch 0.5mm, Thermal Pad 2.2x0.61mm)
pins: 1 FB (in) "Feedback Pin. Reference voltage is 1.255V. Connect resistive divider tap here. Minimize trace area at  FB. Set VOUT = 1.255V(1 + R1/R2).", 2 GND (power) "Ground. Tie directly to local  ground plane.", 3 SW (power) "Switch Pin. (Collector of internal NPN power switch) Connect inductor/diode here and  minimize the metal trace area connected to this pin to minimize EMI.", 4 SW (power) "Switch Pin. (Collector of internal NPN power switch) Connect inductor/diode here and  minimize the metal trace area connected to this pin to minimize EMI.", 5 GND (power) "Ground. Tie directly to local  ground plane.", 6 VIN (power) "Input Supply Pin. Must be locally bypassed.", 7 SS (in) "Soft-Start Pin. Place a soft-start capacitor here. Upon start-up, 4uA of current charges the capacitor to 1.255V. Use a larger capacitor for slower start-up. Leave floating if not in use.", 8 ~{SHDN} (in) "Shutdown Pin. Tie to 2.4V or more to enable device. Ground to shut down.", 9 EP (power) "Ground. Tie directly to local ground plane."

## LT3467EDDB#TRPBF
designator U?
1.1 A Step-Up DC/DC Converter with Integrated Soft-Start MAX, 8-pin SON (DDB-8), -40 to 85 degC, Pb-Free, Tape and Reel; Manufacturer: Linear Technology; PartNumber: LT3467EDDB#TRPBF; Number of Outputs: 1; PackageReference: DDB-8; PackageDescription: 8-Pin Plastic DFN, Body 3 x 2 mm, Pitch 0.5 mm; Supplier 1: Digi-Key; Supplier Part Number 1: LT3467EDDB#TRPBF-ND; RoHS: TRUE
footprint LT-DDB-8_V (SON, 8-Leads, Body 3x2mm, Pitch 0.5mm, Thermal Pad 2.2x0.61mm)
pins: 1 FB (in) "Feedback Pin. Reference voltage is 1.255V. Connect resistive divider tap here. Minimize trace area at  FB. Set VOUT = 1.255V(1 + R1/R2).", 2 GND (power) "Ground. Tie directly to local  ground plane.", 3 SW (power) "Switch Pin. (Collector of internal NPN power switch) Connect inductor/diode here and  minimize the metal trace area connected to this pin to minimize EMI.", 4 SW (power) "Switch Pin. (Collector of internal NPN power switch) Connect inductor/diode here and  minimize the metal trace area connected to this pin to minimize EMI.", 5 GND (power) "Ground. Tie directly to local  ground plane.", 6 VIN (power) "Input Supply Pin. Must be locally bypassed.", 7 SS (in) "Soft-Start Pin. Place a soft-start capacitor here. Upon start-up, 4uA of current charges the capacitor to 1.255V. Use a larger capacitor for slower start-up. Leave floating if not in use.", 8 ~{SHDN} (in) "Shutdown Pin. Tie to 2.4V or more to enable device. Ground to shut down.", 9 EP (power) "Ground. Tie directly to local ground plane."

## LT3467ES6
designator U?
1.1 A Step-Up DC/DC Converter with Integrated Soft-Start MAX, 6-pin SOT23 (S6-6), -40 to 85 degC; Manufacturer: Linear Technology; PartNumber: LT3467ES6; Number of Outputs: 1; PackageReference: S6-6; PackageDescription: 6-Pin Plastic TSOT-23, Body 2.9 x 1.63 mm, Pitch 0.95 mm; RoHS: FALSE
footprint LT-S6-6-TSOT-23_N (SOT23, 6-Leads, Body 2.9x1.75mm, Pitch 0.95mm, IPC Medium Density)
footprint LT-S6-6-TSOT-23_L (SOT23, 6-Leads, Body 2.9x1.75mm, Pitch 0.95mm, IPC High Density)
footprint LT-S6-6-TSOT-23_M (SOT23, 6-Leads, Body 2.9x1.75mm, Pitch 0.95mm, IPC Low Density)
pins: 1 SW (power) "Switch Pin. (Collector of internal NPN power switch) Connect inductor/diode here and minimize the metal trace area connected to this pin to minimize EMI.", 2 GND (power) "Ground. Tie directly to local ground plane.", 3 FB (in) "Feedback Pin. Reference voltage is 1.255V. Connect resistive divider tap here. Minimize trace area at FB. Set VOUT = 1.255V(1 + R1/R2).", 4 ~{SHDN} (in) "Shutdown Pin. Tie to 2.4V or more to enable device. Ground to shut down.", 5 SS (in) "Soft-Start Pin. Place a soft-start capacitor here. Upon start-up, 4uA of current charges the capacitor to 1.255V. Use a larger capacitor for slower start-up. Leave floating if not in use.", 6 VIN (power) "Input Supply Pin. Must be locally bypassed."

## LT3467ES6#PBF
designator U?
1.1 A Step-Up DC/DC Converter with Integrated Soft-Start MAX, 6-pin SOT23 (S6-6), -40 to 85 degC, Pb-Free; Manufacturer: Linear Technology; PartNumber: LT3467ES6#PBF; Number of Outputs: 1; PackageReference: S6-6; PackageDescription: 6-Pin Plastic TSOT-23, Body 2.9 x 1.63 mm, Pitch 0.95 mm; Supplier 1: Farnell; Supplier Part Number 1: 2308205; RoHS: TRUE
footprint LT-S6-6-TSOT-23_N (SOT23, 6-Leads, Body 2.9x1.75mm, Pitch 0.95mm, IPC Medium Density)
footprint LT-S6-6-TSOT-23_L (SOT23, 6-Leads, Body 2.9x1.75mm, Pitch 0.95mm, IPC High Density)
footprint LT-S6-6-TSOT-23_M (SOT23, 6-Leads, Body 2.9x1.75mm, Pitch 0.95mm, IPC Low Density)
pins: 1 SW (power) "Switch Pin. (Collector of internal NPN power switch) Connect inductor/diode here and minimize the metal trace area connected to this pin to minimize EMI.", 2 GND (power) "Ground. Tie directly to local ground plane.", 3 FB (in) "Feedback Pin. Reference voltage is 1.255V. Connect resistive divider tap here. Minimize trace area at FB. Set VOUT = 1.255V(1 + R1/R2).", 4 ~{SHDN} (in) "Shutdown Pin. Tie to 2.4V or more to enable device. Ground to shut down.", 5 SS (in) "Soft-Start Pin. Place a soft-start capacitor here. Upon start-up, 4uA of current charges the capacitor to 1.255V. Use a larger capacitor for slower start-up. Leave floating if not in use.", 6 VIN (power) "Input Supply Pin. Must be locally bypassed."

## LT3467ES6#TR
designator U?
1.1 A Step-Up DC/DC Converter with Integrated Soft-Start MAX, 6-pin SOT23 (S6-6), -40 to 85 degC, Tape and Reel; Manufacturer: Linear Technology; PartNumber: LT3467ES6#TR; Number of Outputs: 1; PackageReference: S6-6; PackageDescription: 6-Pin Plastic TSOT-23, Body 2.9 x 1.63 mm, Pitch 0.95 mm; Supplier 1: Digi-Key; Supplier Part Number 1: LT3467ES6#TR-ND; RoHS: FALSE
footprint LT-S6-6-TSOT-23_N (SOT23, 6-Leads, Body 2.9x1.75mm, Pitch 0.95mm, IPC Medium Density)
footprint LT-S6-6-TSOT-23_L (SOT23, 6-Leads, Body 2.9x1.75mm, Pitch 0.95mm, IPC High Density)
footprint LT-S6-6-TSOT-23_M (SOT23, 6-Leads, Body 2.9x1.75mm, Pitch 0.95mm, IPC Low Density)
pins: 1 SW (power) "Switch Pin. (Collector of internal NPN power switch) Connect inductor/diode here and minimize the metal trace area connected to this pin to minimize EMI.", 2 GND (power) "Ground. Tie directly to local ground plane.", 3 FB (in) "Feedback Pin. Reference voltage is 1.255V. Connect resistive divider tap here. Minimize trace area at FB. Set VOUT = 1.255V(1 + R1/R2).", 4 ~{SHDN} (in) "Shutdown Pin. Tie to 2.4V or more to enable device. Ground to shut down.", 5 SS (in) "Soft-Start Pin. Place a soft-start capacitor here. Upon start-up, 4uA of current charges the capacitor to 1.255V. Use a larger capacitor for slower start-up. Leave floating if not in use.", 6 VIN (power) "Input Supply Pin. Must be locally bypassed."

## LT3467ES6#TRM
designator U?
1.1 A Step-Up DC/DC Converter with Integrated Soft-Start MAX, 6-pin SOT23 (S6-6), -40 to 85 degC, Mini Tape and Reel; Manufacturer: Linear Technology; PartNumber: LT3467ES6#TRM; Number of Outputs: 1; PackageReference: S6-6; PackageDescription: 6-Pin Plastic TSOT-23, Body 2.9 x 1.63 mm, Pitch 0.95 mm; Supplier 1: Digi-Key; Supplier Part Number 1: LT3467ES6#TRMTR-ND; RoHS: FALSE
footprint LT-S6-6-TSOT-23_N (SOT23, 6-Leads, Body 2.9x1.75mm, Pitch 0.95mm, IPC Medium Density)
footprint LT-S6-6-TSOT-23_L (SOT23, 6-Leads, Body 2.9x1.75mm, Pitch 0.95mm, IPC High Density)
footprint LT-S6-6-TSOT-23_M (SOT23, 6-Leads, Body 2.9x1.75mm, Pitch 0.95mm, IPC Low Density)
pins: 1 SW (power) "Switch Pin. (Collector of internal NPN power switch) Connect inductor/diode here and minimize the metal trace area connected to this pin to minimize EMI.", 2 GND (power) "Ground. Tie directly to local ground plane.", 3 FB (in) "Feedback Pin. Reference voltage is 1.255V. Connect resistive divider tap here. Minimize trace area at FB. Set VOUT = 1.255V(1 + R1/R2).", 4 ~{SHDN} (in) "Shutdown Pin. Tie to 2.4V or more to enable device. Ground to shut down.", 5 SS (in) "Soft-Start Pin. Place a soft-start capacitor here. Upon start-up, 4uA of current charges the capacitor to 1.255V. Use a larger capacitor for slower start-up. Leave floating if not in use.", 6 VIN (power) "Input Supply Pin. Must be locally bypassed."

## LT3467ES6#TRMPBF
designator U?
1.1 A Step-Up DC/DC Converter with Integrated Soft-Start MAX, 6-pin SOT23 (S6-6), -40 to 85 degC, Pb-Free, Mini Tape and Reel; Manufacturer: Linear Technology; PartNumber: LT3467ES6#TRMPBF; Number of Outputs: 1; PackageReference: S6-6; PackageDescription: 6-Pin Plastic TSOT-23, Body 2.9 x 1.63 mm, Pitch 0.95 mm; Supplier 1: Digi-Key; Supplier Part Number 1: LT3467ES6#TRMPBFTR-ND; RoHS: TRUE
footprint LT-S6-6-TSOT-23_N (SOT23, 6-Leads, Body 2.9x1.75mm, Pitch 0.95mm, IPC Medium Density)
footprint LT-S6-6-TSOT-23_L (SOT23, 6-Leads, Body 2.9x1.75mm, Pitch 0.95mm, IPC High Density)
footprint LT-S6-6-TSOT-23_M (SOT23, 6-Leads, Body 2.9x1.75mm, Pitch 0.95mm, IPC Low Density)
pins: 1 SW (power) "Switch Pin. (Collector of internal NPN power switch) Connect inductor/diode here and minimize the metal trace area connected to this pin to minimize EMI.", 2 GND (power) "Ground. Tie directly to local ground plane.", 3 FB (in) "Feedback Pin. Reference voltage is 1.255V. Connect resistive divider tap here. Minimize trace area at FB. Set VOUT = 1.255V(1 + R1/R2).", 4 ~{SHDN} (in) "Shutdown Pin. Tie to 2.4V or more to enable device. Ground to shut down.", 5 SS (in) "Soft-Start Pin. Place a soft-start capacitor here. Upon start-up, 4uA of current charges the capacitor to 1.255V. Use a larger capacitor for slower start-up. Leave floating if not in use.", 6 VIN (power) "Input Supply Pin. Must be locally bypassed."